# EAGLE library part ADS1115 (library ouijabot)
ADS1115 16-Bit ADC - 4 Channel with Programmable Gain Amplifier: https://www.adafruit.com/product/1085
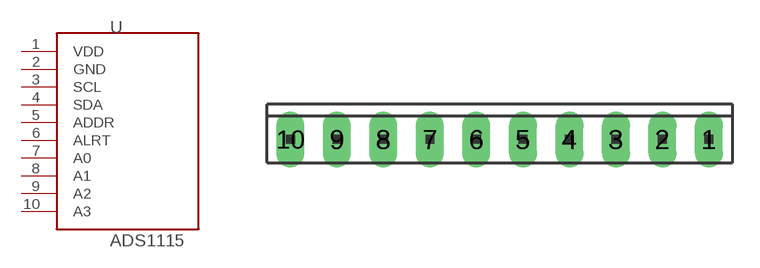
[diagram p0: symbol with the pads of 10X10MTA; footprint 10X10MTA]

Designator prefix -

## ADS1115  [10X10MTA]
1  VDD  pwr
2  GND  pwr
3  SCL
4  SDA
5  ADDR
6  ALRT
7  A0
8  A1
9  A2
10  A3

## Footprint 10X10MTA (pad centres in mm)
AMP MTA connector Source: http://ecommas.tycoelectronics.com .. ENG_CD_640456_W.pdf
drill 1.016 long: 1 11.43,0; 2 8.89,0; 3 6.35,0; 4 3.81,0; 5 1.27,0; 6 -1.27,0; 7 -3.81,0; 8 -6.35,0; 9 -8.89,0; 10 -11.43,0